# EAGLE library part POE-RJ45 (library wiznet_5100)
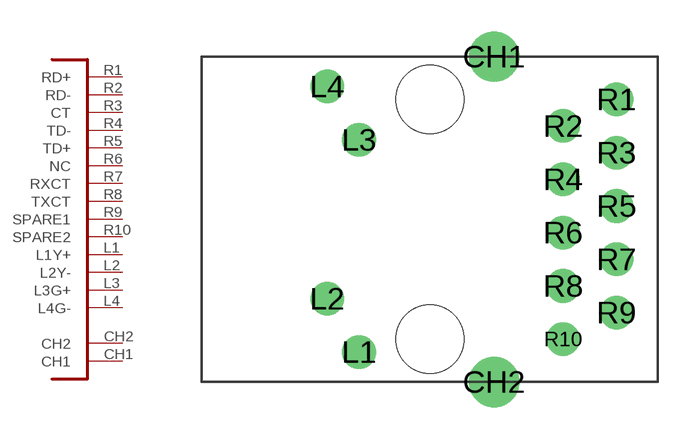
[diagram p4: symbol with the pads of POE-RJ45; footprint POE-RJ45]

Designator prefix -

## POE-RJ45  [POE-RJ45]
CH1  CH1
CH2  CH2
L1  L1Y+
L2  L2Y-
L3  L3G+
L4  L4G-
R1  RD+
R2  RD-
R3  CT
R4  TD-
R5  TD+
R6  NC
R7  RXCT
R8  TXCT
R9  SPARE1
R10  SPARE2

## Footprint POE-RJ45 (pad centres in mm)
drill 1.6: CH1 13.94,7.75; CH2 13.94,-7.75
drill 0.95 pad 1.6: L1 7.51,-6.325; L2 5.99,-3.785; L3 7.51,3.785; L4 5.99,6.325; R1 19.77,5.715; R2 17.23,4.445; R3 19.77,3.175; R4 17.23,1.905; R5 19.77,0.635; R6 17.23,-0.635; R7 19.77,-1.905; R8 17.23,-3.175; R9 19.77,-4.445; R10 17.23,-5.715
hole 3.25 at 10.89,5.715
hole 3.25 at 10.89,-5.715